# Altium footprint library HRS_DF58_6P.PcbLib: 1 footprints
Each footprint in its own frame and in the unit in brackets; x right, y up, seen from the top. Pads: shape width x height; smd on the part's side, far side on the other; paste and mask are expansions set on the pad; w line width, h text height; cw(c..) or ccw(c..) is an arc to the next point about the centre after c.
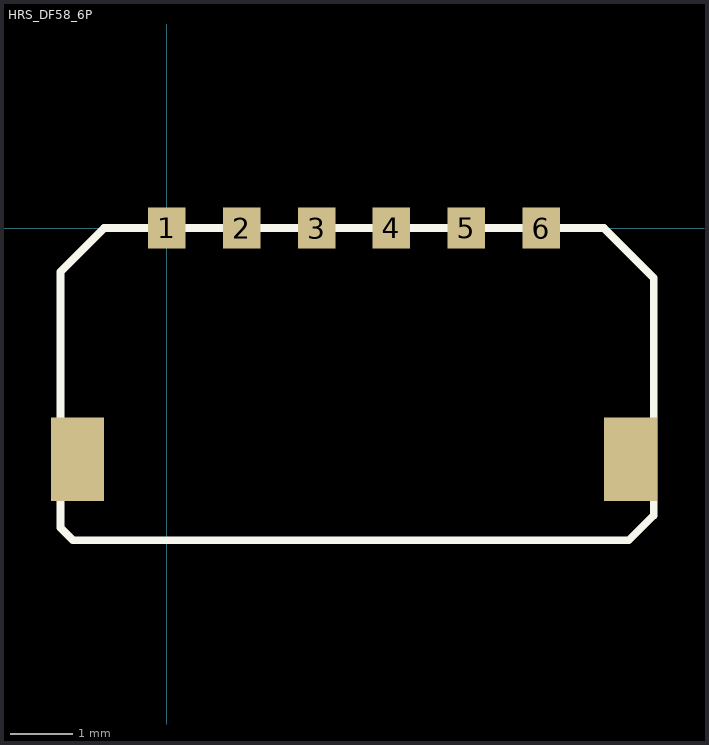
[diagram p0: the footprint, top view; thin cyan lines are the x and y axes]

## HRS_DF58_6P [mm]
height 0.95
pads (8):
  rect 0.6x0.65 smd: 1(0,0) 2(1.2,0) 3(2.4,0) 4(3.6,0) 5(4.8,0) 6(6,0)
  rect 0.85x1.34 smd: ""(-1.425,-3.705) ""(7.425,-3.705)
Top Overlay:
  lines w0.127: -1.7,-4.8 -1.5,-5 3.9,-5 7.4,-5 7.8,-4.6 7.8,-0.8 7,0 -1,0 -1.7,-0.7 -1.7,-4.8